# EAGLE library part PIC32MX3XXXL (library pic32)
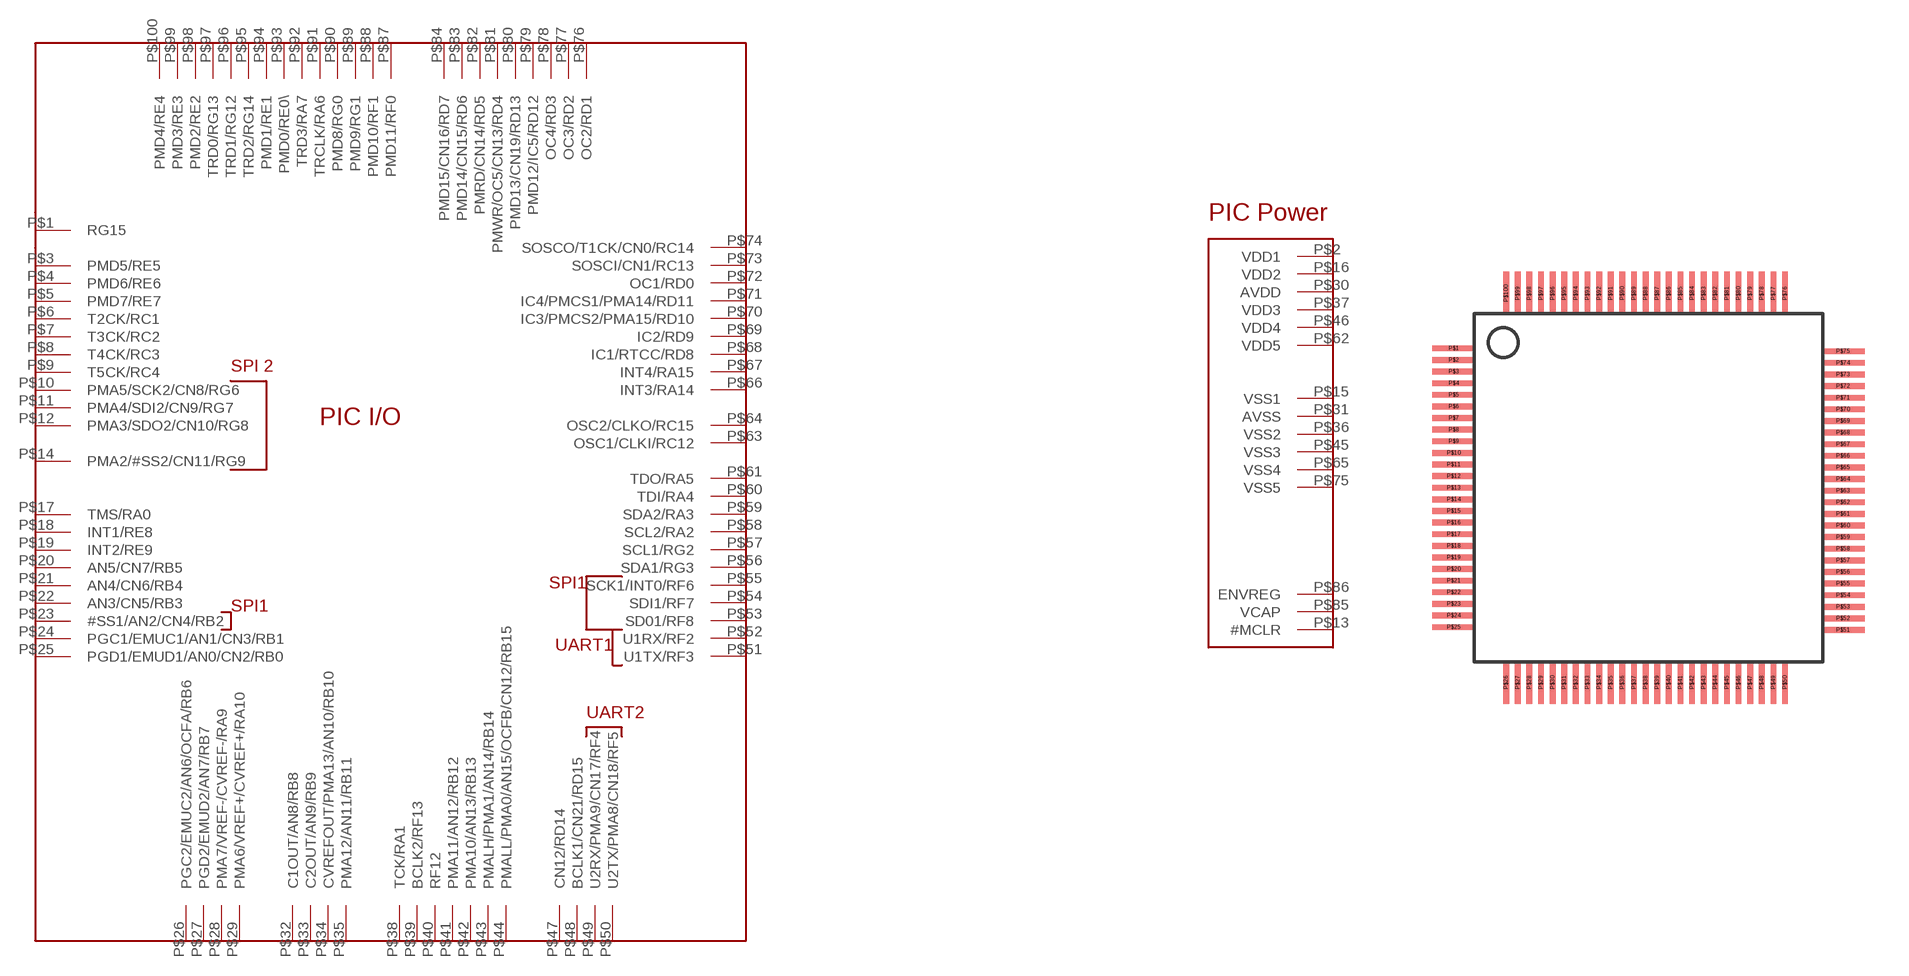
[diagram p1: symbol with the pads of PIC32_100_TQFP; footprint PIC32_100_TQFP]

Designator prefix -

## PIC32MX3XXXL  [PIC32_100_TQFP]
P$1  RG15
P$2  VDD1
P$3  PMD5/RE5
P$4  PMD6/RE6
P$5  PMD7/RE7
P$6  T2CK/RC1
P$7  T3CK/RC2
P$8  T4CK/RC3
P$9  T5CK/RC4
P$10  PMA5/SCK2/CN8/RG6
P$11  PMA4/SDI2/CN9/RG7
P$12  PMA3/SDO2/CN10/RG8
P$13  #MCLR
P$14  PMA2/#SS2/CN11/RG9
P$15  VSS1
P$16  VDD2
P$17  TMS/RA0
P$18  INT1/RE8
P$19  INT2/RE9
P$20  AN5/CN7/RB5
P$21  AN4/CN6/RB4
P$22  AN3/CN5/RB3
P$23  #SS1/AN2/CN4/RB2
P$24  PGC1/EMUC1/AN1/CN3/RB1
P$25  PGD1/EMUD1/AN0/CN2/RB0
P$26  PGC2/EMUC2/AN6/OCFA/RB6
P$27  PGD2/EMUD2/AN7/RB7
P$28  PMA7/VREF-/CVREF-/RA9
P$29  PMA6/VREF+/CVREF+/RA10
P$30  AVDD
P$31  AVSS
P$32  C1OUT/AN8/RB8
P$33  C2OUT/AN9/RB9
P$34  CVREFOUT/PMA13/AN10/RB10
P$35  PMA12/AN11/RB11
P$36  VSS2
P$37  VDD3
P$38  TCK/RA1
P$39  BCLK2/RF13
P$40  RF12
P$41  PMA11/AN12/RB12
P$42  PMA10/AN13/RB13
P$43  PMALH/PMA1/AN14/RB14
P$44  PMALL/PMA0/AN15/OCFB/CN12/RB15
P$45  VSS3
P$46  VDD4
P$47  CN12/RD14
P$48  BCLK1/CN21/RD15
P$49  U2RX/PMA9/CN17/RF4
P$50  U2TX/PMA8/CN18/RF5
P$51  U1TX/RF3
P$52  U1RX/RF2
P$53  SD01/RF8
P$54  SDI1/RF7
P$55  SCK1/INT0/RF6
P$56  SDA1/RG3
P$57  SCL1/RG2
P$58  SCL2/RA2
P$59  SDA2/RA3
P$60  TDI/RA4
P$61  TDO/RA5
P$62  VDD5
P$63  OSC1/CLKI/RC12
P$64  OSC2/CLKO/RC15
P$65  VSS4
P$66  INT3/RA14
P$67  INT4/RA15
P$68  IC1/RTCC/RD8
P$69  IC2/RD9
P$70  IC3/PMCS2/PMA15/RD10
P$71  IC4/PMCS1/PMA14/RD11
P$72  OC1/RD0
P$73  SOSCI/CN1/RC13
P$74  SOSCO/T1CK/CN0/RC14
P$75  VSS5
P$76  OC2/RD1
P$77  OC3/RD2
P$78  OC4/RD3
P$79  PMD12/IC5/RD12
P$80  PMD13/CN19/RD13
P$81  PMWR/OC5/CN13/RD4
P$82  PMRD/CN14/RD5
P$83  PMD14/CN15/RD6
P$84  PMD15/CN16/RD7
P$85  VCAP
P$86  ENVREG
P$87  PMD11/RF0
P$88  PMD10/RF1
P$89  PMD9/RG1
P$90  PMD8/RG0
P$91  TRCLK/RA6
P$92  TRD3/RA7
P$93  PMD0/RE0\
P$94  PMD1/RE1
P$95  TRD2/RG14
P$96  TRD1/RG12
P$97  TRD0/RG13
P$98  PMD2/RE2
P$99  PMD3/RE3
P$100  PMD4/RE4

## Footprint PIC32_100_TQFP (pad centres in mm)
smd 1.5 x 0.2: P$1 -1.7,-0.2; P$2 -1.7,-0.6; P$3 -1.7,-1; P$4 -1.7,-1.4; P$5 -1.7,-1.8; P$6 -1.7,-2.2; P$7 -1.7,-2.6; P$8 -1.7,-3; P$9 -1.7,-3.4; P$10 -1.7,-3.8; P$11 -1.7,-4.2; P$12 -1.7,-4.6; P$13 -1.7,-5; P$14 -1.7,-5.4; P$15 -1.7,-5.8; P$16 -1.7,-6.2; P$17 -1.7,-6.6; P$18 -1.7,-7; P$19 -1.7,-7.4; P$20 -1.7,-7.8; P$21 -1.7,-8.2; P$22 -1.7,-8.6; P$23 -1.7,-9; P$24 -1.7,-9.4; P$25 -1.7,-9.8; P$51 11.7,-9.9; P$52 11.7,-9.5; P$53 11.7,-9.1; P$54 11.7,-8.7; P$55 11.7,-8.3; P$56 11.7,-7.9; P$57 11.7,-7.5; P$58 11.7,-7.1; P$59 11.7,-6.7; P$60 11.7,-6.3; P$61 11.7,-5.9; P$62 11.7,-5.5; P$63 11.7,-5.1; P$64 11.7,-4.7; P$65 11.7,-4.3; P$66 11.7,-3.9; P$67 11.7,-3.5; P$68 11.7,-3.1; P$69 11.7,-2.7; P$70 11.7,-2.3; P$71 11.7,-1.9; P$72 11.7,-1.5; P$73 11.7,-1.1; P$74 11.7,-0.7; P$75 11.7,-0.3
smd 0.2 x 1.5: P$26 0.1,-11.7; P$27 0.5,-11.7; P$28 0.9,-11.7; P$29 1.3,-11.7; P$30 1.7,-11.7; P$31 2.1,-11.7; P$32 2.5,-11.7; P$33 2.9,-11.7; P$34 3.3,-11.7; P$35 3.7,-11.7; P$36 4.1,-11.7; P$37 4.5,-11.7; P$38 4.9,-11.7; P$39 5.3,-11.7; P$40 5.7,-11.7; P$41 6.1,-11.7; P$42 6.5,-11.7; P$43 6.9,-11.7; P$44 7.3,-11.7; P$45 7.7,-11.7; P$46 8.1,-11.7; P$47 8.5,-11.7; P$48 8.9,-11.7; P$49 9.3,-11.7; P$50 9.7,-11.7; P$76 9.7,1.7; P$77 9.3,1.7; P$78 8.9,1.7; P$79 8.5,1.7; P$80 8.1,1.7; P$81 7.7,1.7; P$82 7.3,1.7; P$83 6.9,1.7; P$84 6.5,1.7; P$85 6.1,1.7; P$86 5.7,1.7; P$87 5.3,1.7; P$88 4.9,1.7; P$89 4.5,1.7; P$90 4.1,1.7; P$91 3.7,1.7; P$92 3.3,1.7; P$93 2.9,1.7; P$94 2.5,1.7; P$95 2.1,1.7; P$96 1.7,1.7; P$97 1.3,1.7; P$98 0.9,1.7; P$99 0.5,1.7; P$100 0.1,1.7